# EAGLE library part 10DOF_BREAKOUT (library adafruit_breakout_boards)
adafruit 10dof breakout board see https://www.adafruit.com/product/1604
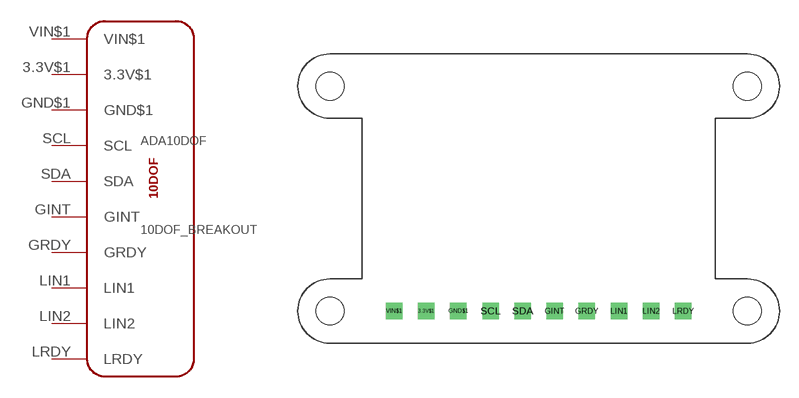
[diagram p0: symbol with the pads of 10_DOF_BREAKOUT; footprint 10_DOF_BREAKOUT]

Designator prefix ADA10DOF

## 10DOF_BREAKOUT  [10_DOF_BREAKOUT]
3.3V$1  3.3V$1  in
GINT  GINT
GND$1  GND$1  in
GRDY  GRDY
LIN1  LIN1
LIN2  LIN2
LRDY  LRDY
SCL  SCL
SDA  SDA
VIN$1  VIN$1

## Footprint 10_DOF_BREAKOUT (pad centres in mm)
drill 0.8 square: 3.3V$1 -8.89,-8.89; GINT 1.27,-8.89; GND$1 -6.35,-8.89; GRDY 3.81,-8.89; LIN1 6.35,-8.89; LIN2 8.89,-8.89; LRDY 11.43,-8.89; SCL -3.81,-8.89; SDA -1.27,-8.89; VIN$1 -11.43,-8.89
hole 2.2 at -16.51,-8.89
hole 2.2 at -16.51,8.89
hole 2.2 at 16.51,-8.89
hole 2.2 at 16.51,8.89